# Altium footprint library gpn-badge.PcbLib: 33 footprints (part 2 of 3)
Each footprint in its own frame and in the unit in brackets; x right, y up, seen from the top. Pads: shape width x height; smd on the part's side, far side on the other; paste and mask are expansions set on the pad; w line width, h text height; cw(c..) or ccw(c..) is an arc to the next point about the centre after c.
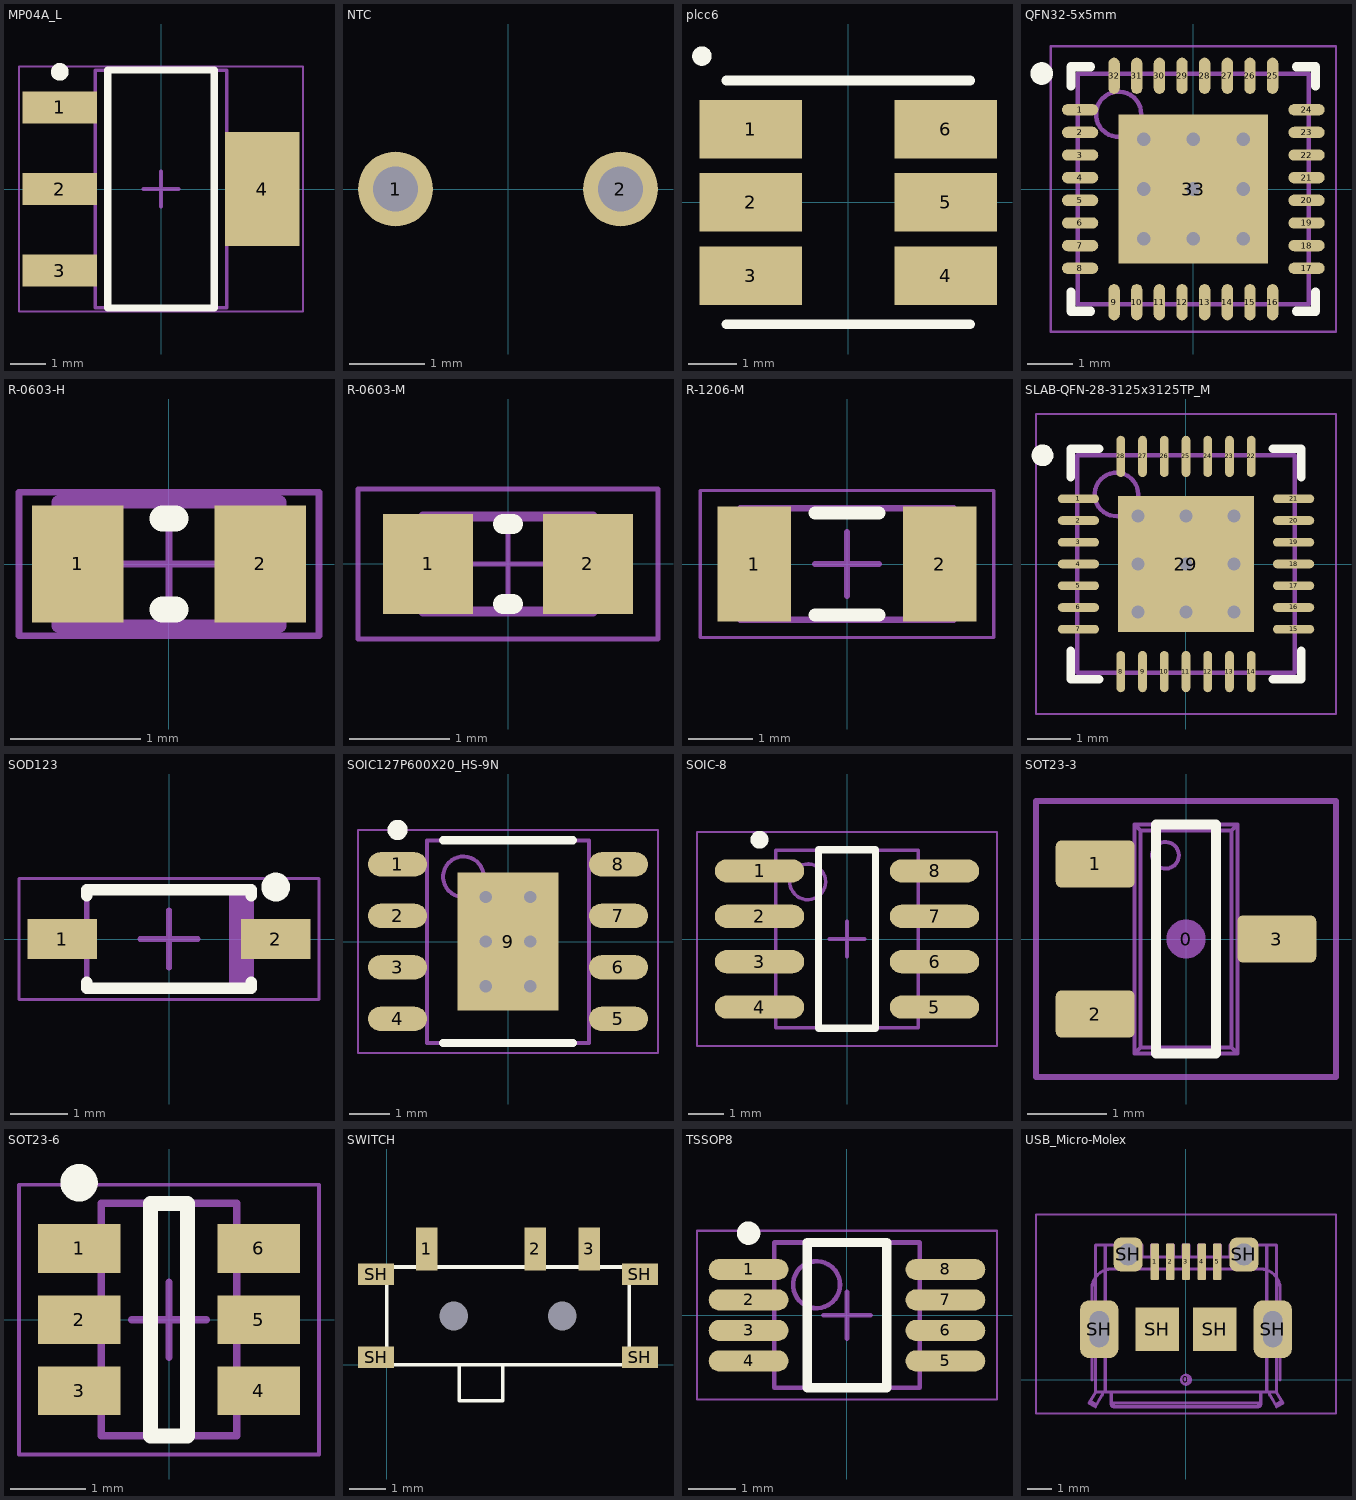
[diagram p1: the footprints below, top view; thin cyan lines are the x and y axes]

## MP04A_L [mm] "SOT223, 4-Leads, Body 6.5x3.5mm, Pitch 2.3mm, Lead Span 7mm, IPC High Density"
height 1.8
pads (4):
  rect 2.1x0.9 smd: 1(-2.85,2.3) 2(-2.85,0) 3(-2.85,-2.3)
  rect 2.1x3.2 smd: 4(2.85,0)
Top Overlay:
  circle w0.25: c-2.85,3.3 r0.125
  lines w0.2: -1.5,-3.35 -1.5,3.35 1.5,3.35 1.5,-3.35 -1.5,-3.35
Mechanical 13:
  lines w0.1: -1.855,-3.35 -1.855,3.35 1.855,3.35 1.855,-3.35 -1.855,-3.35
Mechanical 15:
  lines w0.05: -4,-3.45 -4,3.45 4,3.45 4,-3.45 -4,-3.45
  lines w0.1: -0.5,0 0.5,0 ; 0,-0.5 0,0.5
3D body: height 1.8, standoff 0.03, extent -1.855,-3.35 1.855,3.35

## NTC [mm]
height 0.7
pads (2):
  round 1 hole 0.6: 1(-1.5,0) 2(1.5,0)
3D body "NTC.stp": height 4.62, standoff -2, extent -1.965,-1.965 1.965,1.965

## plcc6 [mm]
height 0.7
pads (6):
  rect 2.1x1.2 smd: 1(-2,1.5) 2(-2,0) 3(-2,-1.5) 4(2,-1.5) 5(2,0) 6(2,1.5)
Top Overlay:
  circle w0.2: c-3,3 r0.1
  lines w0.2: -2.5,-2.5 2.5,-2.5 ; -2.5,2.5 0,2.5 2.5,2.5
3D body "User Library-5050.stp": height 1.6, standoff 0, extent -2.6,-2.475 2.6,2.525

## QFN32-5x5mm [mm] "QFN, 32-Leads, Body 5x5mm, Pitch 0.5mm, Thermal Pad 3.3x3.3mm, IPC Medium Density"
height 1
pads (33):
  oval 0.8x0.25 smd: 1(-2.5,1.75) 2(-2.5,1.25) 3(-2.5,0.75) 4(-2.5,0.25) 5(-2.5,-0.25) 6(-2.5,-0.75) 7(-2.5,-1.25) 8(-2.5,-1.75) 17(2.5,-1.75) 18(2.5,-1.25) 19(2.5,-0.75) 20(2.5,-0.25) 21(2.5,0.25) 22(2.5,0.75) 23(2.5,1.25) 24(2.5,1.75)
  oval 0.25x0.8 smd: 9(-1.75,-2.5) 10(-1.25,-2.5) 11(-0.75,-2.5) 12(-0.25,-2.5) 13(0.25,-2.5) 14(0.75,-2.5) 15(1.25,-2.5) 16(1.75,-2.5) 25(1.75,2.5) 26(1.25,2.5) 27(0.75,2.5) 28(0.25,2.5) 29(-0.25,2.5) 30(-0.75,2.5) 31(-1.25,2.5) 32(-1.75,2.5)
  rect 3.3x3.3 smd: 33(0,0)
via -1.1,-1.1 diameter 0.5 hole 0.3
via -1.1,0 diameter 0.5 hole 0.3
via 0,0 diameter 0.5 hole 0.3
via -1.1,1.1 diameter 0.5 hole 0.3
via 0,1.1 diameter 0.5 hole 0.3
via 1.1,1.1 diameter 0.5 hole 0.3
via 1.1,0 diameter 0.5 hole 0.3
via 0,-1.1 diameter 0.5 hole 0.3
via 1.1,-1.1 diameter 0.5 hole 0.3
Top Overlay:
  circle w0.25: c-3.35,2.55 r0.125
  lines w0.2: -2.7,-2.275 -2.7,-2.7 -2.275,-2.7 ; -2.7,2.275 -2.7,2.7 -2.275,2.7 ; 2.275,-2.7 2.7,-2.7 2.7,-2.275 ; 2.275,2.7 2.7,2.7 2.7,2.275
Mechanical 13:
  circle w0.1: c-1.65,1.65 r0.5
  lines w0.1: -2.55,-2.55 -2.55,2.55 2.55,2.55 2.55,-2.55 -2.55,-2.55
Mechanical 15:
  lines w0.05: -3.15,-3.15 -3.15,3.15 3.15,3.15 3.15,-3.15 -3.15,-3.15
  lines w0.1: -0.5,0 0.5,0 ; 0,-0.5 0,0.5
3D body "User Library-qfn32-5x5.step": height 0.8, standoff 0, extent -2.51,-2.51 2.51,2.51

## R-0603-H [mm] "Chip Resistor, Body 1.6x0.8mm, IPC High Density"
height 0.6
pads (2):
  rect 0.7x0.9 smd: 1(-0.7,0) 2(0.7,0)
Top Overlay:
  lines w0.2: -0.05,-0.35 0.05,-0.35 ; -0.05,0.35 0.05,0.35
Mechanical 13:
  lines w0.1: -0.85,-0.475 -0.85,0.475 0.85,0.475 0.85,-0.475 -0.85,-0.475
Mechanical 15:
  lines w0.05: -0.475,0 0.475,0 ; 0,-0.475 0,0.475 ; -1.15,-0.55 -1.15,0.55 1.15,0.55 1.15,-0.55 -1.15,-0.55
3D body "User Library-RES_SMD-1 (1).step": height 0.55, standoff 0, extent -0.875,-0.475 0.875,0.475

## R-0603-M [mm] "Chip Resistor, Body 1.6x0.8mm, IPC Medium Density"
height 0.6
pads (2):
  rect 0.9x1 smd: 1(-0.8,0) 2(0.8,0)
Top Overlay:
  lines w0.2: -0.05,-0.4 0.05,-0.4 ; -0.05,0.4 0.05,0.4
Mechanical 13:
  lines w0.1: -0.85,-0.475 0.85,-0.475 0.85,0.475 -0.85,0.475 -0.85,-0.475
Mechanical 15:
  lines w0.05: -0.475,0 0.475,0 ; 0,-0.475 0,0.475 ; -1.5,-0.75 1.5,-0.75 1.5,0.75 -1.5,0.75 -1.5,-0.75
3D body "User Library-RES_SMD-1 (1).step": height 0.55, standoff 0, extent -0.875,-0.475 0.875,0.475

## R-1206-M [mm] "Chip Resistor, Body 3.2x1.6mm, IPC Medium Density"
height 0.75
pads (2):
  rect 1.15x1.8 smd: 1(-1.45,0) 2(1.45,0)
Top Overlay:
  lines w0.2: -0.5,-0.8 0.5,-0.8 ; -0.5,0.8 0.5,0.8
Mechanical 13:
  lines w0.1: -1.675,-0.875 -1.675,0.875 1.675,0.875 1.675,-0.875 -1.675,-0.875
Mechanical 15:
  lines w0.05: -2.3,-1.15 -2.3,1.15 2.3,1.15 2.3,-1.15 -2.3,-1.15
  lines w0.1: -0.5,0 0.5,0 ; 0,-0.5 0,0.5
3D body "User Library-RES_SMD-1.step": height 0.7, standoff 0, extent -1.625,-0.825 1.625,0.825

## SLAB-QFN-28-3125x3125TP_M [mm] "QFN, 28-Leads, Body 5x5mm, Pitch 0.5mm, Thermal Pad 3.13x3.13mm, IPC Low Density"
height 1
pads (29):
  oval 0.95x0.2 smd: 1(-2.475,1.5) 2(-2.475,1) 3(-2.475,0.5) 4(-2.475,0) 5(-2.475,-0.5) 6(-2.475,-1) 7(-2.475,-1.5) 15(2.475,-1.5) 16(2.475,-1) 17(2.475,-0.5) 18(2.475,0) 19(2.475,0.5) 20(2.475,1) 21(2.475,1.5)
  oval 0.2x0.95 smd: 8(-1.5,-2.475) 9(-1,-2.475) 10(-0.5,-2.475) 11(0,-2.475) 12(0.5,-2.475) 13(1,-2.475) 14(1.5,-2.475) 22(1.5,2.475) 23(1,2.475) 24(0.5,2.475) 25(0,2.475) 26(-0.5,2.475) 27(-1,2.475) 28(-1.5,2.475)
  rect 3.13x3.13 smd: 29(0,0)
via 1.1,-1.1 diameter 0.5 hole 0.3
via 0,-1.1 diameter 0.5 hole 0.3
via -1.1,-1.1 diameter 0.5 hole 0.3
via 1.1,0 diameter 0.5 hole 0.3
via 0,0 diameter 0.5 hole 0.3
via -1.1,0 diameter 0.5 hole 0.3
via 1.1,1.1 diameter 0.5 hole 0.3
via 0,1.1 diameter 0.5 hole 0.3
via -1.1,1.1 diameter 0.5 hole 0.3
Top Overlay:
  circle w0.25: c-3.3,2.5 r0.125
  lines w0.2: -2.65,-2 -2.65,-2.65 -2,-2.65 ; -2.65,2 -2.65,2.65 -2,2.65 ; 2,-2.65 2.65,-2.65 2.65,-2 ; 2,2.65 2.65,2.65 2.65,2
Mechanical 13:
  circle w0.1: c-1.6,1.6 r0.5
  lines w0.1: -2.5,-2.5 2.5,-2.5 2.5,2.5 -2.5,2.5 -2.5,-2.5
Mechanical 15:
  lines w0.05: -3.45,-3.45 3.45,-3.45 3.45,3.45 -3.45,3.45 -3.45,-3.45
  lines w0.1: -0.5,0 0.5,0 ; 0,-0.5 0,0.5
3D body: height 1, standoff 0, extent -2.5,-2.5 2.5,2.5

## SOD123 [mm]
height 0.7
pads (2):
  rect 1.2x0.7 smd: 1(-1.85,0) 2(1.85,0)
Top Overlay:
  circle w0.25: c1.85,0.9 r0.125
  lines w0.2: -1.425,-0.75 -1.425,-0.85 1.425,-0.85 1.425,-0.75 ; -1.425,0.75 -1.425,0.85 1.425,0.85 1.425,0.75
Mechanical 13:
  rectangle: 1.042,-0.85 1.425,0.85
  lines w0.1: -1.425,-0.85 -1.425,0.85 1.425,0.85 1.425,-0.85 -1.425,-0.85
Mechanical 15:
  lines w0.05: -2.6,-1.05 -2.6,1.05 2.6,1.05 2.6,-1.05 -2.6,-1.05
  lines w0.1: -0.5,0 0.5,0 ; 0,-0.5 0,0.5
3D body "User Library-SOD-123_DiodesInc.step": height 1.42, standoff -0.03, extent -1.925,-0.85 1.925,0.85

## SOIC127P600X20_HS-9N [mm] "SOIC, 8-Leads, Body 4,90x3,90mm, Pitch 1,27mm, Thermal Pad 3,40x2,50mm, IPC Medium Density"
height 0.2
pads (9):
  oval 1.45x0.6 smd: 1(-2.725,1.905) 2(-2.725,0.635) 3(-2.725,-0.635) 4(-2.725,-1.905) 5(2.725,-1.905) 6(2.725,-0.635) 7(2.725,0.635) 8(2.725,1.905)
  rect 2.5x3.4 smd: 9(0,0)
via -0.55,1.1 diameter 0.5 hole 0.3
via 0.55,1.1 diameter 0.5 hole 0.3
via -0.55,0 diameter 0.5 hole 0.3
via 0.55,0 diameter 0.5 hole 0.3
via -0.55,-1.1 diameter 0.5 hole 0.3
via 0.55,-1.1 diameter 0.5 hole 0.3
Top Overlay:
  circle w0.25: c-2.725,2.755 r0.125
  lines w0.2: -1.6,-2.5 1.6,-2.5 ; -1.6,2.5 1.6,2.5
Mechanical 13:
  circle w0.1: c-1.1,1.6 r0.5
  lines w0.1: -2,-2.5 -2,2.5 2,2.5 2,-2.5 -2,-2.5
Mechanical 15:
  lines w0.05: -3.7,-2.75 -3.7,2.75 3.7,2.75 3.7,-2.75 -3.7,-2.75
  lines w0.1: -0.5,0 0.5,0 ; 0,-0.5 0,0.5
3D body: height 1, standoff 0.1, extent -2,-2.5 2,2.5

## SOIC-8 [mm] "SOIC, 8-Leads, Body 4.89x3.9mm, Pitch 1.27mm, IPC Low Density"
height 1.72
pads (8):
  oval 2.5x0.65 smd: 1(-2.45,1.905) 2(-2.45,0.635) 3(-2.45,-0.635) 4(-2.45,-1.905) 5(2.45,-1.905) 6(2.45,-0.635) 7(2.45,0.635) 8(2.45,1.905)
Top Overlay:
  circle w0.25: c-2.45,2.78 r0.125
  lines w0.2: -0.8,-2.5 0.8,-2.5 0.8,2.5 -0.8,2.5 -0.8,-2.5
Mechanical 13:
  circle w0.1: c-1.1,1.6 r0.5
  lines w0.1: -1.995,-2.49 1.995,-2.49 1.995,2.49 -1.995,2.49 -1.995,-2.49
Mechanical 15:
  lines w0.05: -4.2,-3 4.2,-3 4.2,3 -4.2,3 -4.2,-3
  lines w0.1: -0.5,0 0.5,0 ; 0,-0.5 0,0.5
3D body "User Library-SOIC-8-1.STEP": height 1.75, standoff 0, extent -3,-2.45 3,2.45

## SOT23-3 [mm] "SOT23, 3 pin"
height 1.003
pads (4):
  round 0.5 on Mech15: 0(0,0)
  rrect25% 1x0.6 smd: 1(-1.15,0.95) 2(-1.15,-0.95) 3(1.15,0)
Top Overlay:
  lines w0.127: -0.381,-1.45 0.381,-1.45 0.381,1.45 -0.381,1.45 -0.381,-1.45
  text "." at -2.125,0.95 h0.1
Mechanical 13:
  circle w0.05: c-0.26,1.06 r0.169
  lines w0.05: -1.19,-1.19 -1.19,-0.71 ; -1.19,0.71 -1.19,1.19 ; -1.099,-1.19 -1.099,-0.71 ; -1.099,0.71 -1.099,1.19 ; -1.074,-1.19 -1.074,-0.71 ; -1.074,0.71 -1.074,1.19 ; -0.825,-1.19 -0.825,-0.71 ; -0.825,0.71 -0.825,1.19 ; -0.65,-1.19 -1.4,-1.19 -1.4,-0.71 -0.65,-0.71 ; -0.65,0.71 -1.4,0.71 -1.4,1.19 -0.65,1.19 ; 0.65,-0.24 1.4,-0.24 1.4,0.24 0.65,0.24 ; 0.825,-0.24 0.825,0.24 ; 1.074,-0.24 1.074,0.24 ; 1.099,-0.24 1.099,0.24 ; 1.19,-0.24 1.19,0.24 ; -0.65,-1.45 -0.576,-1.376 ; -0.65,-1.45 -0.65,1.45 ; -0.65,-1.45 0.65,-1.45 ; -0.65,1.45 0.65,1.45 ; -0.65,1.45 -0.576,1.376 ; -0.576,-1.376 -0.576,1.376 ; -0.576,-1.376 0.576,-1.376 ; -0.576,1.376 0.576,1.376 ; 0.576,-1.376 0.576,1.376 ; 0.576,-1.376 0.65,-1.45 ; 0.576,1.376 0.65,1.45 ; 0.65,-1.45 0.65,1.45
Mechanical 15:
  lines w0.076: -1.9,-1.75 1.9,-1.75 1.9,1.75 -1.9,1.75 -1.9,-1.75
3D body "SOT23-3.STEP": height 1.29, standoff -0.01, extent -1.4,-1.45 1.4,1.45

## SOT23-6 [mm] "SOT23, 6-Leads, Body 2.9x1.6mm, Pitch 0.95mm, Lead Span 2.8mm, IPC Medium Density"
height 1.4
pads (6):
  rect 1.1x0.65 smd: 1(-1.2,0.95) 2(-1.2,0) 3(-1.2,-0.95) 4(1.2,-0.95) 5(1.2,0) 6(1.2,0.95)
Top Overlay:
  circle w0.25: c-1.2,1.825 r0.125
  lines w0.2: -0.25,-1.55 0.25,-1.55 0.25,1.55 -0.25,1.55 -0.25,-1.55
Mechanical 13:
  lines w0.1: -0.9,-1.55 -0.9,1.55 0.9,1.55 0.9,-1.55 -0.9,-1.55
Mechanical 15:
  lines w0.05: -2,-1.8 -2,1.8 2,1.8 2,-1.8 -2,-1.8
  lines w0.1: -0.5,0 0.5,0 ; 0,-0.5 0,0.5
3D body "User Library-SOT23-6-2.step": height 1.45, standoff 0, extent -1.4,-1.45 1.4,1.45

## SWITCH [mm]
height 0.7
pads (9):
  rect 0.6x1.2 smd: 1(1.1,3.2) 2(4.1,3.2) 3(5.6,3.2)
  rect 1x0.6 smd: SH(-0.3,0.2) SH(-0.3,2.5) SH(7,0.2) SH(7,2.5)
  rect 0x0 hole 0.8: ""(1.85,1.35) ""(4.85,1.35)
Top Overlay:
  lines w0.1: 2,0 2,-1 3.2,-1 3.2,0 ; 0,0 0,2.7 6.7,2.7 6.7,0 0,0

## TSSOP8 [mm] "TSOP, 8-Leads, Body 3x3mm, Pitch 0.65mm, IPC Medium Density"
height 1.09
pads (8):
  oval 1.7x0.45 smd: 1(-2.1,0.975) 2(-2.1,0.325) 3(-2.1,-0.325) 4(-2.1,-0.975) 5(2.1,-0.975) 6(2.1,-0.325) 7(2.1,0.325) 8(2.1,0.975)
Top Overlay:
  circle w0.25: c-2.1,1.75 r0.125
  lines w0.2: -0.85,-1.55 0.85,-1.55 0.85,1.55 -0.85,1.55 -0.85,-1.55
Mechanical 13:
  circle w0.1: c-0.65,0.65 r0.5
  lines w0.1: -1.55,-1.55 1.55,-1.55 1.55,1.55 -1.55,1.55 -1.55,-1.55
Mechanical 15:
  lines w0.05: -3.2,-1.8 3.2,-1.8 3.2,1.8 -3.2,1.8 -3.2,-1.8
  lines w0.1: -0.5,0 0.5,0 ; 0,-0.5 0,0.5
3D body "User Library-TSSOP8-1.step": height 1.1, standoff 0, extent -2.05,-1.55 2.05,1.55

## USB_Micro-Molex [mm]
height 2.286
pads (12):
  round 0.508 on Mech15: 0(0,0)
  rrect20% 0.35x1.5 smd: 1(-1.3,4.9) 2(-0.65,4.9) 3(0,4.9) 4(0.65,4.9) 5(1.3,4.9)
  rrect50% 1.6x2.4 hole 0.8 slot 1.5 at 90 deg: SH(-3.6,2.1) SH(3.6,2.1)
  rrect50% 1.2x1.4 hole 0.8 slot 0.9 at 90 deg: SH(-2.4,5.2) SH(2.4,5.2)
  rect 1.8x1.8 smd: SH(-1.2,2.1) SH(1.2,2.1)
Top Solder:
  region: 1.9,4.176 1.9,5.7 -1.91,5.7 -1.91,4.176
Mechanical 13:
  lines w0.127: -3.97,-0.881 -3.71,-1.031 ; -3.85,1.1 -3.85,2.1 ; -3.45,-0.5 cw(c-3.75,-0.501) -3.49,-0.651 -3.76,-1.118 -4.02,-0.968 -3.75,-0.5 ; -3.35,-0.5 -3.35,5.6 ; -3.1,-0.881 ccw(c-3.006,-0.874) -3,-0.968 ; -2.526,5.593 -2.526,5.6 ; -2.229,5.353 ccw(c-2.275,5.6) -2.024,5.6 -1.825,5.6 -1.825,5.1 ; -1.425,5.1 -1.425,5.6 -1.175,5.6 -1.175,5.1 ; -0.775,5.1 -0.775,5.6 -0.525,5.6 -0.525,5.1 ; -0.125,5.1 -0.125,5.6 0.125,5.6 0.125,5.1 ; 0.525,5.1 0.525,5.6 0.775,5.6 0.775,5.1 ; 1.175,5.1 1.175,5.6 1.425,5.6 1.425,5.1 ; 1.825,5.1 1.825,5.6 2.024,5.6 ccw(c2.275,5.6) 2.229,5.353 ; 2.526,5.593 2.526,5.6 ; 3.1,-0.881 cw(c3.006,-0.874) 3,-0.968 ; 3.35,-0.5 3.35,5.6 ; 3.45,-0.5 ccw(c3.75,-0.501) 3.49,-0.651 3.76,-1.118 4.02,-0.968 3.75,-0.5 ; 3.71,-1.031 3.97,-0.881 ; 3.85,1.1 3.85,2.1 ; -3.75,-0.5 -3.1,-0.5 ; -3.75,-0.5 -3.75,5.6 -2.577,5.6 cw(c-2.577,5.4) -2.443,5.548 -2.007,5.152 ccw(c-1.873,5.3) -1.873,5.1 1.873,5.1 ccw(c1.873,5.3) 2.007,5.152 2.443,5.548 cw(c2.577,5.4) 2.577,5.6 3.75,5.6 3.75,-0.5 ; -3.1,-0.5 -3.1,-1.031 ccw(c-3.006,-1.024) -3,-1.118 ; -3.1,-0.5 3.1,-0.501 ; -3,-1.118 -3,-0.968 ; -3,-1.118 3,-1.118 ; -3,-0.968 3,-0.968 ; 3,-1.118 ccw(c3.006,-1.024) 3.1,-1.031 3.1,-0.5 ; 3,-1.118 3,-0.968 ; 3.1,-0.5 3.75,-0.5
Mechanical 15:
  lines w0.076: -6.223,-1.397 6.223,-1.397 6.223,6.858 -6.223,6.858 -6.223,-1.397
  lines w0.127: -3.9,0 -3.9,3.797 cw(c-3.1,3.797) -3.1,4.597 3.1,4.597 cw(c3.1,3.797) 3.9,3.797 3.9,0
3D body "USB Micro B plug.STEP": height 5.2, standoff -3, extent -5.35,-21.579 5.35,2.921
3D body "475890001.stp": height 2.71, standoff -0.6, extent -4.325,-0.594 4.325,5.3